# Altium footprint library ICM-42688-P.PcbLib: 3 footprints
Each footprint in its own frame and in the unit in brackets; x right, y up, seen from the top. Pads: shape width x height; smd on the part's side, far side on the other; paste and mask are expansions set on the pad; w line width, h text height; cw(c..) or ccw(c..) is an arc to the next point about the centre after c.
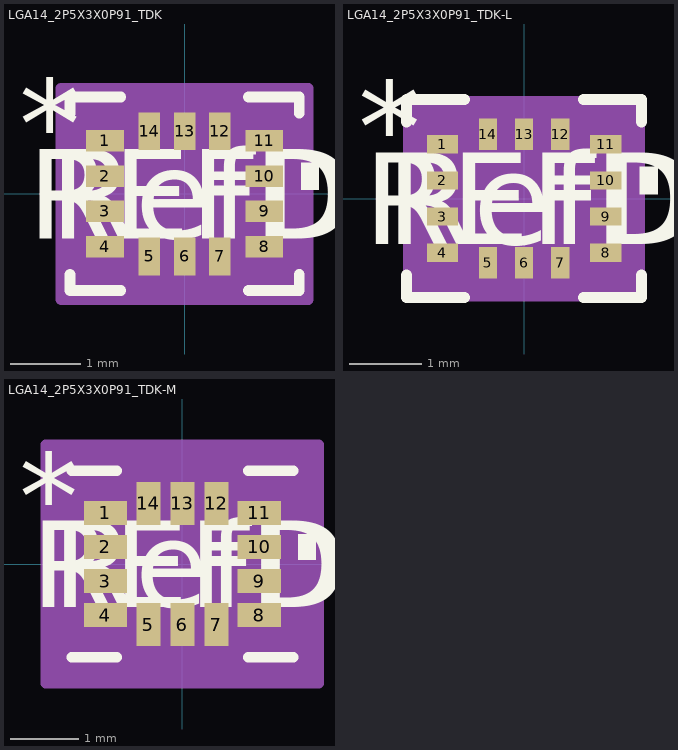
[diagram p0: the footprints below, top view; thin cyan lines are the x and y axes]

## LGA14_2P5X3X0P91_TDK [mil]
pads (14):
  rect 21x12 smd paste+0 mask+0: 1(-44.5,29.53) 2(-44.5,9.84) 3(-44.5,-9.84) 4(-44.5,-29.53) 8(44.5,-29.53) 9(44.5,-9.84) 10(44.5,9.84) 11(44.5,29.53)
  rect 12x21 smd paste+0 mask+0: 5(-19.68,-35) 6(0,-35) 7(19.68,-35) 12(19.68,35) 13(0,35) 14(-19.68,35)
Top Overlay:
  region: 65,17.34 75,17.34 75,2.34 65,2.34
  lines w6: -64,-45.05 -64,-54 -35.65,-54 ; -64,45.05 -64,54 -35.65,54 ; 35.65,-54 64,-54 64,-45.05 ; 35.65,54 64,54 64,45.05
  text "*" at -92.5,14.37 h50
  text "RefDes" at -75,-25 h50
  text "REFDES" at -87.5,-25 h50
Mechanical 13:
  lines w1: -59,-1 -9,49 ; -59,-49 59,-49 ; -59,-49 -59,49 ; -59,-49 -59,-49 ; -59,49 59,49 ; -59,49 -59,49 ; 59,-49 59,-49 ; 59,-49 59,49 ; 59,49 59,49 ; -59,-35.53 -59,-23.53 -55,-23.53 -55,-35.53 -59,-35.53 ; -59,-15.84 -59,-3.84 -55,-3.84 -55,-15.84 -59,-15.84 ; -59,3.84 -59,15.84 -55,15.84 -55,3.84 -59,3.84 ; -59,23.53 -59,35.53 -55,35.53 -55,23.53 -59,23.53 ; -25.68,-49 -13.69,-49 -13.69,-45.5 -25.68,-45.5 -25.68,-49 ; -25.68,45.5 -13.69,45.5 -13.69,49 -25.68,49 -25.68,45.5 ; -6,-49 6,-49 6,-45.5 -6,-45.5 -6,-49 ; -6,45.5 6,45.5 6,49 -6,49 -6,45.5 ; 13.69,-49 25.68,-49 25.68,-45.5 13.69,-45.5 13.69,-49 ; 13.69,45.5 25.68,45.5 25.68,49 13.69,49 13.69,45.5 ; 55,-35.53 59,-35.53 59,-23.53 55,-23.53 55,-35.53 ; 55,-15.84 59,-15.84 59,-3.84 55,-3.84 55,-15.84 ; 55,3.84 59,3.84 59,15.84 55,15.84 55,3.84 ; 55,23.53 59,23.53 59,35.53 55,35.53 55,23.53
  text "*" at -46.5,14.37 h50
  text "RefDes2" at -87.5,-25 h50
Mechanical 15:
  region: -35.69,-59 -69,-59 -69,-45.53 -69,45.53 -69,59 -35.69,59 35.69,59 69,59 69,45.53 69,-45.53 69,-59 35.69,-59
  lines w6: -69,-45.53 -69,-59 -35.69,-59 ; -69,-45.53 -69,-45.53 ; -69,-45.53 -69,45.53 ; -69,45.53 -69,45.53 ; -69,45.53 -69,59 -35.69,59 ; -35.69,-59 35.69,-59 ; -35.69,-59 -35.69,-59 ; -35.69,59 -35.69,59 ; -35.69,59 35.69,59 ; 35.69,-59 69,-59 69,-45.53 ; 35.69,-59 35.69,-59 ; 35.69,59 35.69,59 ; 35.69,59 69,59 69,45.53 ; 69,-45.53 69,45.53 ; 69,-45.53 69,-45.53 ; 69,45.53 69,45.53
3D body "LGA14_2P5X3X0P91_TDK.step": height 38.11, standoff 0, extent -59.02,-49.02 59.02,49.02

## LGA14_2P5X3X0P91_TDK-L [mil]
pads (14):
  rect 17x10 smd paste+0 mask+0: 1(-44.5,29.53) 2(-44.5,9.84) 3(-44.5,-9.84) 4(-44.5,-29.53) 8(44.5,-29.53) 9(44.5,-9.84) 10(44.5,9.84) 11(44.5,29.53)
  rect 10x17 smd paste+0 mask+0: 5(-19.68,-35) 6(0,-35) 7(19.68,-35) 12(19.68,35) 13(0,35) 14(-19.68,35)
Top Overlay:
  region: 63,17.34 73,17.34 73,2.34 63,2.34
  lines w6: -64,-41.64 -64,-54 -32.52,-54 ; -64,41.64 -64,54 -32.52,54 ; 32.52,-54 64,-54 64,-41.64 ; 32.52,54 64,54 64,41.64
  text "*" at -90.5,14.37 h50
  text "RefDes" at -75,-25 h50
  text "REFDES" at -87.5,-25 h50
Mechanical 13:
  lines w1: -59,-1 -9,49 ; -59,-49 59,-49 ; -59,-49 -59,49 ; -59,-49 -59,-49 ; -59,49 59,49 ; -59,49 -59,49 ; 59,-49 59,-49 ; 59,-49 59,49 ; 59,49 59,49 ; -59,-35.53 -59,-23.53 -55,-23.53 -55,-35.53 -59,-35.53 ; -59,-15.84 -59,-3.84 -55,-3.84 -55,-15.84 -59,-15.84 ; -59,3.84 -59,15.84 -55,15.84 -55,3.84 -59,3.84 ; -59,23.53 -59,35.53 -55,35.53 -55,23.53 -59,23.53 ; -25.68,-49 -13.69,-49 -13.69,-45.5 -25.68,-45.5 -25.68,-49 ; -25.68,45.5 -13.69,45.5 -13.69,49 -25.68,49 -25.68,45.5 ; -6,-49 6,-49 6,-45.5 -6,-45.5 -6,-49 ; -6,45.5 6,45.5 6,49 -6,49 -6,45.5 ; 13.69,-49 25.68,-49 25.68,-45.5 13.69,-45.5 13.69,-49 ; 13.69,45.5 25.68,45.5 25.68,49 13.69,49 13.69,45.5 ; 55,-35.53 59,-35.53 59,-23.53 55,-23.53 55,-35.53 ; 55,-15.84 59,-15.84 59,-3.84 55,-3.84 55,-15.84 ; 55,3.84 59,3.84 59,15.84 55,15.84 55,3.84 ; 55,23.53 59,23.53 59,35.53 55,35.53 55,23.53
  text "*" at -48.5,14.37 h50
  text "RefDes2" at -87.5,-25 h50
Mechanical 15:
  region: -28.68,-53 -63,-53 -63,-38.53 -63,38.53 -63,53 -28.68,53 28.68,53 63,53 63,38.53 63,-38.53 63,-53 28.68,-53
  lines w6: -63,-38.53 -63,-53 -28.68,-53 ; -63,-38.53 -63,-38.53 ; -63,-38.53 -63,38.53 ; -63,38.53 -63,38.53 ; -63,38.53 -63,53 -28.68,53 ; -28.68,-53 28.68,-53 ; -28.68,-53 -28.68,-53 ; -28.68,53 -28.68,53 ; -28.68,53 28.68,53 ; 28.68,-53 63,-53 63,-38.53 ; 28.68,-53 28.68,-53 ; 28.68,53 28.68,53 ; 28.68,53 63,53 63,38.53 ; 63,-38.53 63,38.53 ; 63,-38.53 63,-38.53 ; 63,38.53 63,38.53
3D body "LGA14_2P5X3X0P91_TDK.step": height 38.11, standoff 0, extent -59.02,-49.02 59.02,49.02

## LGA14_2P5X3X0P91_TDK-M [mil]
pads (14):
  rect 25x14 smd paste+0 mask+0: 1(-44.5,29.53) 2(-44.5,9.84) 3(-44.5,-9.84) 4(-44.5,-29.53) 8(44.5,-29.53) 9(44.5,-9.84) 10(44.5,9.84) 11(44.5,29.53)
  rect 14x25 smd paste+0 mask+0: 5(-19.68,-35) 6(0,-35) 7(19.68,-35) 12(19.68,35) 13(0,35) 14(-19.68,35)
Top Overlay:
  region: 67,17.34 77,17.34 77,2.34 67,2.34
  lines w6: -64,-54 -38.06,-54 ; -64,54 -38.06,54 ; 38.06,-54 64,-54 ; 38.06,54 64,54
  text "*" at -94.5,14.37 h50
  text "RefDes" at -75,-25 h50
  text "REFDES" at -87.5,-25 h50
Mechanical 13:
  lines w1: -59,-1 -9,49 ; -59,-49 59,-49 ; -59,-49 -59,49 ; -59,-49 -59,-49 ; -59,49 59,49 ; -59,49 -59,49 ; 59,-49 59,-49 ; 59,-49 59,49 ; 59,49 59,49 ; -59,-35.53 -59,-23.53 -55,-23.53 -55,-35.53 -59,-35.53 ; -59,-15.84 -59,-3.84 -55,-3.84 -55,-15.84 -59,-15.84 ; -59,3.84 -59,15.84 -55,15.84 -55,3.84 -59,3.84 ; -59,23.53 -59,35.53 -55,35.53 -55,23.53 -59,23.53 ; -25.68,-49 -13.69,-49 -13.69,-45.5 -25.68,-45.5 -25.68,-49 ; -25.68,45.5 -13.69,45.5 -13.69,49 -25.68,49 -25.68,45.5 ; -6,-49 6,-49 6,-45.5 -6,-45.5 -6,-49 ; -6,45.5 6,45.5 6,49 -6,49 -6,45.5 ; 13.69,-49 25.68,-49 25.68,-45.5 13.69,-45.5 13.69,-49 ; 13.69,45.5 25.68,45.5 25.68,49 13.69,49 13.69,45.5 ; 55,-35.53 59,-35.53 59,-23.53 55,-23.53 55,-35.53 ; 55,-15.84 59,-15.84 59,-3.84 55,-3.84 55,-15.84 ; 55,3.84 59,3.84 59,15.84 55,15.84 55,3.84 ; 55,23.53 59,23.53 59,35.53 55,35.53 55,23.53
  text "*" at -44.5,14.37 h50
  text "RefDes2" at -87.5,-25 h50
Mechanical 15:
  region: -46.69,-69 -79,-69 -79,-56.53 -79,56.53 -79,69 -46.69,69 46.69,69 79,69 79,56.53 79,-56.53 79,-69 46.69,-69
  lines w6: -79,-56.53 -79,-69 -46.69,-69 ; -79,-56.53 -79,-56.53 ; -79,-56.53 -79,56.53 ; -79,56.53 -79,56.53 ; -79,56.53 -79,69 -46.69,69 ; -46.69,-69 46.69,-69 ; -46.69,-69 -46.69,-69 ; -46.69,69 -46.69,69 ; -46.69,69 46.69,69 ; 46.69,-69 79,-69 79,-56.53 ; 46.69,-69 46.69,-69 ; 46.69,69 46.69,69 ; 46.69,69 79,69 79,56.53 ; 79,-56.53 79,56.53 ; 79,-56.53 79,-56.53 ; 79,56.53 79,56.53
3D body "LGA14_2P5X3X0P91_TDK.step": height 38.11, standoff 0, extent -59.02,-49.02 59.02,49.02